# Altium schematic symbol library SparkFun-Connectors.SCHLIB: 348 symbols (part 9 of 9)
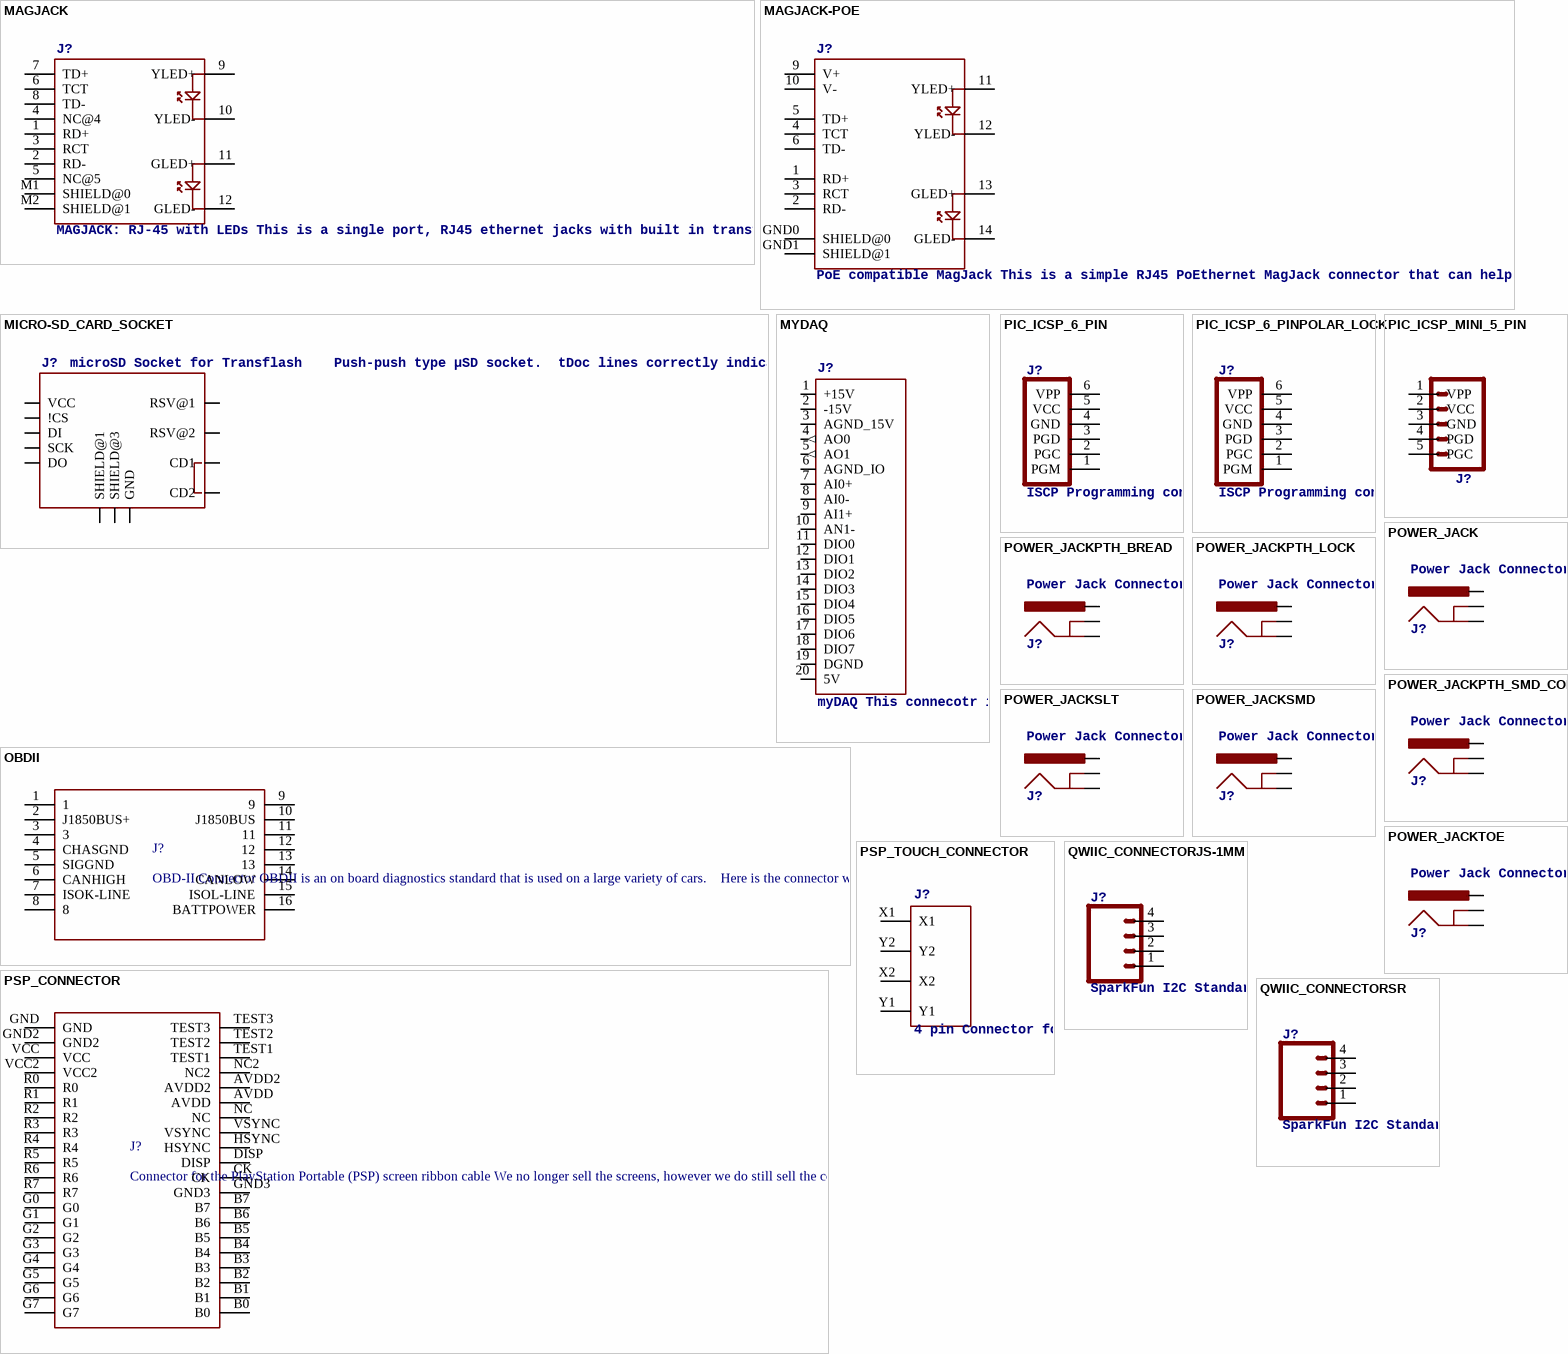
[diagram p19: symbols MAGJACK to QWIIC_CONNECTORSR]

## POWER_JACK
designator J?, comment Power Jack Connector This is the standard 5.5mm barrel jack for power. The PTH is the most common, proven, reliable, footprint. The Slot footprint only works if the mill layer is transmitted to the PCB fab house so be warned.    Here are the connectors we sell at SparkFun: DC Barrel Power Jack/Connector (PRT-00119)  DC Barrel Power Jack/Connector (SMD) (PRT-12748)  DC Barrel Jack Adapter - Breadboard Compatible (PRT-10811)       It is used on this SparkFun product (and many, many others): SparkFun RedBoard - Programmed with Arduino (DEV-12757)       Also, if you need a mating power supply or connector, please check these out: Wall Adapter Power Supply - 9VDC 650mA (TOL-00298)  DC Barrel Jack Adapter - Male (PRT-10287)
PROD_ID: CONN-08197
footprint POWER_JACK_PTH
pins: GND, GNDBREAK, PWR

## POWER_JACKPTH_BREAD
designator J?, comment Power Jack Connector This is the standard 5.5mm barrel jack for power. The PTH is the most common, proven, reliable, footprint. The Slot footprint only works if the mill layer is transmitted to the PCB fab house so be warned.    Here are the connectors we sell at SparkFun: DC Barrel Power Jack/Connector (PRT-00119)  DC Barrel Power Jack/Connector (SMD) (PRT-12748)  DC Barrel Jack Adapter - Breadboard Compatible (PRT-10811)       It is used on this SparkFun product (and many, many others): SparkFun RedBoard - Programmed with Arduino (DEV-12757)       Also, if you need a mating power supply or connector, please check these out: Wall Adapter Power Supply - 9VDC 650mA (TOL-00298)  DC Barrel Jack Adapter - Male (PRT-10287)
PROD_ID: PRT-10811
footprint POWER_JACK_PTH_BREAD
pins: GND, GNDBREAK, PWR

## POWER_JACKPTH_LOCK
designator J?, comment Power Jack Connector This is the standard 5.5mm barrel jack for power. The PTH is the most common, proven, reliable, footprint. The Slot footprint only works if the mill layer is transmitted to the PCB fab house so be warned.    Here are the connectors we sell at SparkFun: DC Barrel Power Jack/Connector (PRT-00119)  DC Barrel Power Jack/Connector (SMD) (PRT-12748)  DC Barrel Jack Adapter - Breadboard Compatible (PRT-10811)       It is used on this SparkFun product (and many, many others): SparkFun RedBoard - Programmed with Arduino (DEV-12757)       Also, if you need a mating power supply or connector, please check these out: Wall Adapter Power Supply - 9VDC 650mA (TOL-00298)  DC Barrel Jack Adapter - Male (PRT-10287)
PROD_ID: CONN-08197; SF_ID: PRT-00119
footprint POWER_JACK_PTH_LOCK
pins: GND, GNDBREAK, PWR

## POWER_JACKPTH_SMD_COMBO
designator J?, comment Power Jack Connector This is the standard 5.5mm barrel jack for power. The PTH is the most common, proven, reliable, footprint. The Slot footprint only works if the mill layer is transmitted to the PCB fab house so be warned.    Here are the connectors we sell at SparkFun: DC Barrel Power Jack/Connector (PRT-00119)  DC Barrel Power Jack/Connector (SMD) (PRT-12748)  DC Barrel Jack Adapter - Breadboard Compatible (PRT-10811)       It is used on this SparkFun product (and many, many others): SparkFun RedBoard - Programmed with Arduino (DEV-12757)       Also, if you need a mating power supply or connector, please check these out: Wall Adapter Power Supply - 9VDC 650mA (TOL-00298)  DC Barrel Jack Adapter - Male (PRT-10287)
footprint POWER_JACK_COMBO
pins: GND GNDBREAK, GND@1 GND, POWER PWR

## POWER_JACKSLT
designator J?, comment Power Jack Connector This is the standard 5.5mm barrel jack for power. The PTH is the most common, proven, reliable, footprint. The Slot footprint only works if the mill layer is transmitted to the PCB fab house so be warned.    Here are the connectors we sell at SparkFun: DC Barrel Power Jack/Connector (PRT-00119)  DC Barrel Power Jack/Connector (SMD) (PRT-12748)  DC Barrel Jack Adapter - Breadboard Compatible (PRT-10811)       It is used on this SparkFun product (and many, many others): SparkFun RedBoard - Programmed with Arduino (DEV-12757)       Also, if you need a mating power supply or connector, please check these out: Wall Adapter Power Supply - 9VDC 650mA (TOL-00298)  DC Barrel Jack Adapter - Male (PRT-10287)
PROD_ID: PRT-00119
footprint POWER_JACK_SLOT
pins: GND@1 GNDBREAK, GND@2 GND, PWR

## POWER_JACKSMD
designator J?, comment Power Jack Connector This is the standard 5.5mm barrel jack for power. The PTH is the most common, proven, reliable, footprint. The Slot footprint only works if the mill layer is transmitted to the PCB fab house so be warned.    Here are the connectors we sell at SparkFun: DC Barrel Power Jack/Connector (PRT-00119)  DC Barrel Power Jack/Connector (SMD) (PRT-12748)  DC Barrel Jack Adapter - Breadboard Compatible (PRT-10811)       It is used on this SparkFun product (and many, many others): SparkFun RedBoard - Programmed with Arduino (DEV-12757)       Also, if you need a mating power supply or connector, please check these out: Wall Adapter Power Supply - 9VDC 650mA (TOL-00298)  DC Barrel Jack Adapter - Male (PRT-10287)
PROD_ID: CONN-08106; SF_ID: PRT-12748
footprint POWER_JACK_SMD
pins: GND GNDBREAK, P$4 GND, VIN0 PWR

## POWER_JACKTOE
designator J?, comment Power Jack Connector This is the standard 5.5mm barrel jack for power. The PTH is the most common, proven, reliable, footprint. The Slot footprint only works if the mill layer is transmitted to the PCB fab house so be warned.    Here are the connectors we sell at SparkFun: DC Barrel Power Jack/Connector (PRT-00119)  DC Barrel Power Jack/Connector (SMD) (PRT-12748)  DC Barrel Jack Adapter - Breadboard Compatible (PRT-10811)       It is used on this SparkFun product (and many, many others): SparkFun RedBoard - Programmed with Arduino (DEV-12757)       Also, if you need a mating power supply or connector, please check these out: Wall Adapter Power Supply - 9VDC 650mA (TOL-00298)  DC Barrel Jack Adapter - Male (PRT-10287)
PROD_ID: CONN-08106; SF_ID: PRT-12748
footprint POWER_JACK_SMD_OVERPASTE_TOE
pins: GND GNDBREAK, P$4 GND, VIN0 PWR

## PSP_CONNECTOR
designator J?, comment Connector for the PlayStation Portable (PSP) screen ribbon cable We no longer sell the screens, however we do still sell the connector.    Here is the connector we sell at SparkFun: Color 24-Bit LCD 4.3" PSP Connector (LCD-08355)  Datasheet
SF_ID: LCD-08355
footprint PSP_CONNECTOR
pins: AVDD, AVDD2, B0, B1, B2, B3, B4, B5, B6, B7, CK, DISP, G0, G1, G2, G3, G4, G5, G6, G7, GND, GND2, GND3, HSYNC, NC, NC2, R0, R1, R2, R3, R4, R5, R6, R7, TEST1, TEST2, TEST3, VCC, VCC2, VSYNC

## PSP_TOUCH_CONNECTOR
designator J?, comment 4 pin Connector for the Color 24-Bit LCD 4.3" Play Station Portable (PSP) Touch Screen We no longer sell the screens, however we do still sell the connector.    Here is the connector we sell at SparkFun: Color 24-Bit LCD 4.3" PSP Touch Screen Connector (LCD-09104)  Datasheet
PROD_ID: CONN-09139; SF_ID: LCD-09104
footprint PSP_TOUCH_CONNECTOR
pins: X1, X2, Y1, Y2

## QWIIC_CONNECTORJS-1MM
designator J?, comment SparkFun I2C Standard Qwiic Connector An SMD 1mm pitch JST connector makes it easy and quick (get it? Qwiic?) to connect I2C devices to each other. The Qwiic system enables fast and solderless connection between popular platforms and various sensors and actuators.   We carry 200mm, 100mm, 50mm, and breadboard friendly Qwiic cables. We also offer 10 pcs strips the SMD connectors.
PROD_ID: CONN-13694
footprint 1X04_1MM_RA
pins: 1 (power), 2 (power), 3, 4

## QWIIC_CONNECTORSR
designator J?, comment SparkFun I2C Standard Qwiic Connector An SMD 1mm pitch JST connector makes it easy and quick (get it? Qwiic?) to connect I2C devices to each other. The Qwiic system enables fast and solderless connection between popular platforms and various sensors and actuators.   We carry 200mm, 100mm, 50mm, and breadboard friendly Qwiic cables. We also offer 10 pcs strips the SMD connectors.
footprint 1X04_1MM_RA_STRESSRELIEF
pins: 1 (power), 2 (power), 3, 4

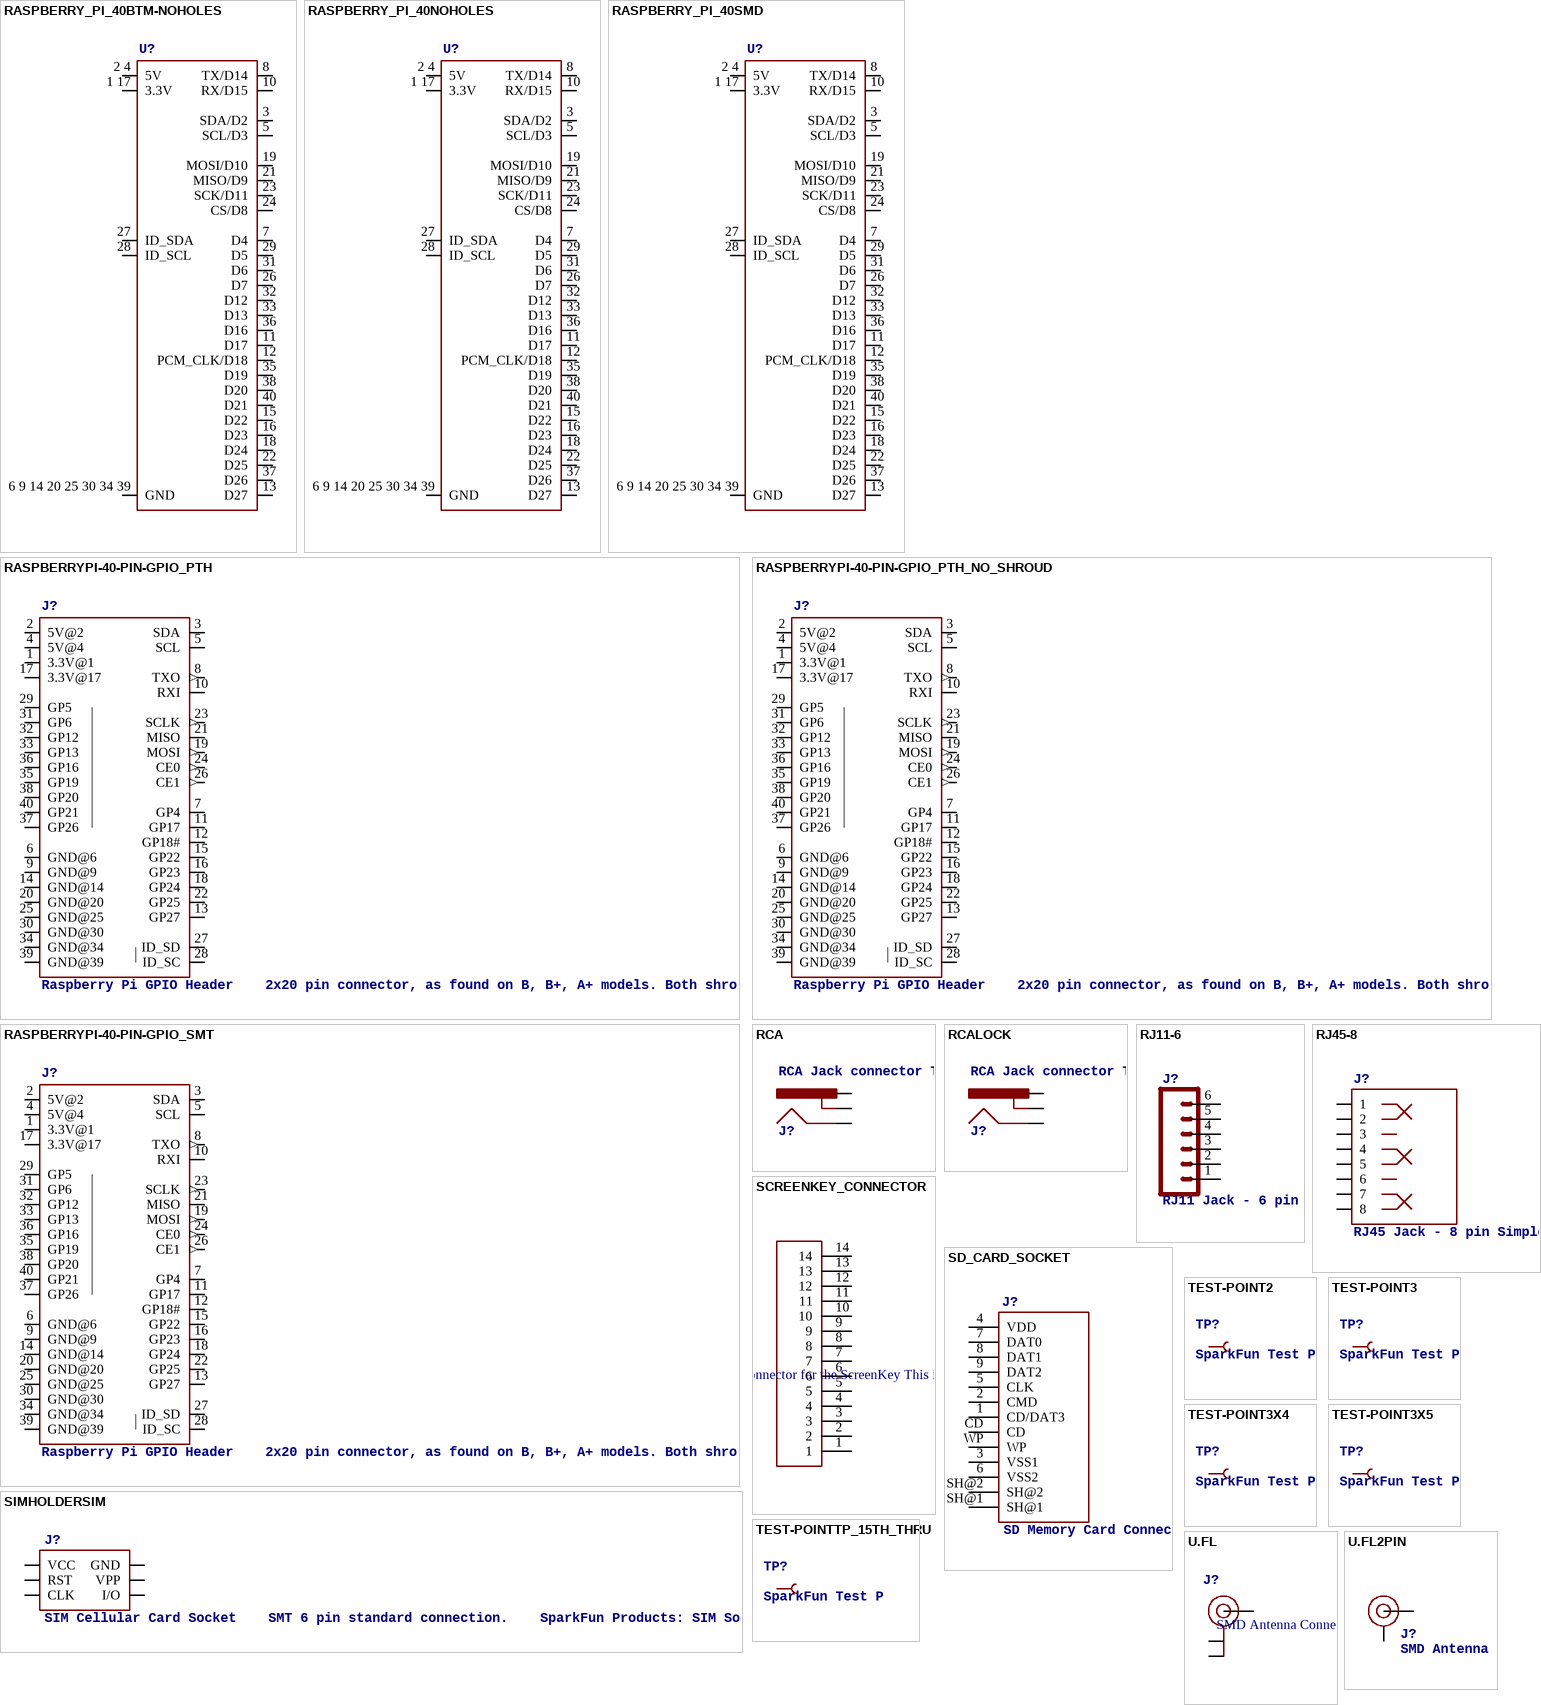
[diagram p10: symbols RASPBERRY_PI_40BTM-NOHOLES to U.FL2PIN]

## RASPBERRY_PI_40BTM-NOHOLES
designator U?
PROD_ID: CONN-13790
footprint RASPBERRY_PI_SHIELD_BOTTOM_ENTRY_NOHOLES
pins: 1 17 3.3V, 2 4 5V, 3 SDA/D2, 5 SCL/D3, 6 9 14 20 25 30 34 39 GND, 7 D4, 8 TX/D14, 10 RX/D15, 11 D17, 12 PCM_CLK/D18, 13 D27, 15 D22, 16 D23, 18 D24, 19 MOSI/D10, 21 MISO/D9, 22 D25, 23 SCK/D11, 24 CS/D8, 26 D7, 27 ID_SDA, 28 ID_SCL, 29 D5, 31 D6, 32 D12, 33 D13, 35 D19, 36 D16, 37 D26, 38 D20, 40 D21

## RASPBERRY_PI_40NOHOLES
designator U?
footprint RASPBERRY_PI_SHIELD_NOHOLES
pins: 1 17 3.3V, 2 4 5V, 3 SDA/D2, 5 SCL/D3, 6 9 14 20 25 30 34 39 GND, 7 D4, 8 TX/D14, 10 RX/D15, 11 D17, 12 PCM_CLK/D18, 13 D27, 15 D22, 16 D23, 18 D24, 19 MOSI/D10, 21 MISO/D9, 22 D25, 23 SCK/D11, 24 CS/D8, 26 D7, 27 ID_SDA, 28 ID_SCL, 29 D5, 31 D6, 32 D12, 33 D13, 35 D19, 36 D16, 37 D26, 38 D20, 40 D21

## RASPBERRY_PI_40SMD
designator U?
footprint RASPBERRY_PI_SHIELD_HOLES
pins: 1 17 3.3V, 2 4 5V, 3 SDA/D2, 5 SCL/D3, 6 9 14 20 25 30 34 39 GND, 7 D4, 8 TX/D14, 10 RX/D15, 11 D17, 12 PCM_CLK/D18, 13 D27, 15 D22, 16 D23, 18 D24, 19 MOSI/D10, 21 MISO/D9, 22 D25, 23 SCK/D11, 24 CS/D8, 26 D7, 27 ID_SDA, 28 ID_SCL, 29 D5, 31 D6, 32 D12, 33 D13, 35 D19, 36 D16, 37 D26, 38 D20, 40 D21

## RASPBERRYPI-40-PIN-GPIO_PTH
designator J?, comment Raspberry Pi GPIO Header    2x20 pin connector, as found on B, B+, A+ models. Both shrouded PTH and SMT versions available.   SparkFun Products: GPIO Shrouded Header- PTH  SparkFun Pi Wedge (Preassembled)
PROD_ID: CONN-12263; SF_ID: PRT-13054
footprint 2X20_SHROUDED
pins: 1 3.3V@1 (power), 2 5V@2 (power), 3 SDA, 4 5V@4 (power), 5 SCL, 6 GND@6 (power), 7 GP4, 8 TXO (out), 9 GND@9 (power), 10 RXI, 11 GP17, 12 GP18#, 13 GP27, 14 GND@14 (power), 15 GP22, 16 GP23, 17 3.3V@17 (power), 18 GP24, 19 MOSI (out), 20 GND@20 (power), 21 MISO, 22 GP25, 23 SCLK (out), 24 CE0 (out), 25 GND@25 (power), 26 CE1 (out), 27 ID_SD, 28 ID_SC, 29 GP5, 30 GND@30 (power), 31 GP6, 32 GP12, 33 GP13, 34 GND@34 (power), 35 GP19, 36 GP16, 37 GP26, 38 GP20, 39 GND@39 (power), 40 GP21

## RASPBERRYPI-40-PIN-GPIO_PTH_NO_SHROUD
designator J?, comment Raspberry Pi GPIO Header    2x20 pin connector, as found on B, B+, A+ models. Both shrouded PTH and SMT versions available.   SparkFun Products: GPIO Shrouded Header- PTH  SparkFun Pi Wedge (Preassembled)
footprint 2X20
pins: 1 3.3V@1 (power), 2 5V@2 (power), 3 SDA, 4 5V@4 (power), 5 SCL, 6 GND@6 (power), 7 GP4, 8 TXO (out), 9 GND@9 (power), 10 RXI, 11 GP17, 12 GP18#, 13 GP27, 14 GND@14 (power), 15 GP22, 16 GP23, 17 3.3V@17 (power), 18 GP24, 19 MOSI (out), 20 GND@20 (power), 21 MISO, 22 GP25, 23 SCLK (out), 24 CE0 (out), 25 GND@25 (power), 26 CE1 (out), 27 ID_SD, 28 ID_SC, 29 GP5, 30 GND@30 (power), 31 GP6, 32 GP12, 33 GP13, 34 GND@34 (power), 35 GP19, 36 GP16, 37 GP26, 38 GP20, 39 GND@39 (power), 40 GP21

## RASPBERRYPI-40-PIN-GPIO_SMT
designator J?, comment Raspberry Pi GPIO Header    2x20 pin connector, as found on B, B+, A+ models. Both shrouded PTH and SMT versions available.   SparkFun Products: GPIO Shrouded Header- PTH  SparkFun Pi Wedge (Preassembled)
PROD_ID: CONN-13143
footprint 2X20_SHROUDED_SMT
pins: 1 3.3V@1 (power), 2 5V@2 (power), 3 SDA, 4 5V@4 (power), 5 SCL, 6 GND@6 (power), 7 GP4, 8 TXO (out), 9 GND@9 (power), 10 RXI, 11 GP17, 12 GP18#, 13 GP27, 14 GND@14 (power), 15 GP22, 16 GP23, 17 3.3V@17 (power), 18 GP24, 19 MOSI (out), 20 GND@20 (power), 21 MISO, 22 GP25, 23 SCLK (out), 24 CE0 (out), 25 GND@25 (power), 26 CE1 (out), 27 ID_SD, 28 ID_SC, 29 GP5, 30 GND@30 (power), 31 GP6, 32 GP12, 33 GP13, 34 GND@34 (power), 35 GP19, 36 GP16, 37 GP26, 38 GP20, 39 GND@39 (power), 40 GP21

## RCA
designator J?, comment RCA Jack connector This is a right angle RCA jack connecotr. Commonly used for video or audio.    Here is the connector we sell at SparkFun: RCA Jack (PRT-08631)  Datasheet      It is not used on any active designs, however it was used on a couple retired products: RCA Jack Breakout [RETIRED] (PRT-08826)  SparkFun On Screen Display Breakout - MAX7456 [RETIRED] (BOB-09168)       You may also be interested in a cable: RCA Video Cable - 6' (CAB-11573)
PROD_ID: CONN-09081; SF_ID: PRT-08631
footprint RCA
pins: PIN, SHELL, SWITCH

## RCALOCK
designator J?, comment RCA Jack connector This is a right angle RCA jack connecotr. Commonly used for video or audio.    Here is the connector we sell at SparkFun: RCA Jack (PRT-08631)  Datasheet      It is not used on any active designs, however it was used on a couple retired products: RCA Jack Breakout [RETIRED] (PRT-08826)  SparkFun On Screen Display Breakout - MAX7456 [RETIRED] (BOB-09168)       You may also be interested in a cable: RCA Video Cable - 6' (CAB-11573)
footprint RCA_LOCK
pins: PIN, SHELL, SWITCH

## RJ11-6
designator J?, comment RJ11 Jack - 6 pin Commonly found on CAT3 devices and some Microchip programmers.    Here is the connector we sell at SparkFun: RJ11 6-Pin Connector (PRT-00132)  Datasheet      It is used on this SparkFun product: SparkFun Weather Shield (DEV-12081)  Weather Meters (SEN-08942)
PROD_ID: CONN-08590; SF_ID: PRT-00132
footprint RJ11-6
pins: 1, 2, 3, 4, 5, 6

## RJ45-8
designator J?, comment RJ45 Jack - 8 pin Simple RJ45, 8-pin connection. Commonly used for Cat5, Cat5e, and Cat6 Ethernet cables.    Here is the connector we sell at SparkFun: RJ45 8-Pin Connector (PRT-00643)  Datasheet      It is used on this SparkFun product: SparkFun RJ45 Breakout (BOB-00716)        Note, you may also be interested in the "MAGJACK" version of this. It is basically a RJ45 connector, but also has some status LEDs built into the connector housing. You can check that out in this library at the device named "MAGJACK.dev" and see these products online: RJ45 Ethernet MagJack-Compatible (PRT-08534)  SparkFun RJ45 MagJack Breakout (BOB-13021)
PROD_ID: CONN-08506; SF_ID: PRT-00643
footprint RJ45-8
pins: 1, 2, 3, 4, 5, 6, 7, 8

## SCREENKEY_CONNECTOR
designator J?, comment Connector for the ScreenKey This is a tiny, locking 14-pin FPC/FFC connector that mates with the TFT ScreenKeys and their displays. These connectors require a really minimal amount of force to close, which is great for the delicate wires they’re designed for.   Unfortunately, we no longer sell the ScreenKey TFT128 or the  TFT128 Display, however we do still sell the connector.    Here is the connector we sell at SparkFun: ScreenKey Mating Connector (PRT-09586)  Datasheet (FH12-14S-0.5SH)
PROD_ID: CONN-09581; SF_ID: PRT-09586
footprint SCREENKEY_MATING_CONNECTOR
pins: 1, 2, 3, 4, 5, 6, 7, 8, 9, 10, 11, 12, 13, 14

## SD_CARD_SOCKET
designator J?, comment SD Memory Card Connector (standard "large" size) Push-push normal type, CD enable, WP enable.    Here is the connector we sell at SparkFun: SD/MMC Socket (PRT-12769)  Datasheet      It is used on these SparkFun products: SparkFun SD/MMC Card Breakout (BOB-12941)  SD Sniffer (TOL-11468)
PROD_ID: CONN-11976; SF_ID: PRT-12769
footprint SD
pins: 1 CD/DAT3, 2 CMD, 3 VSS1 (power), 4 VDD (power), 5 CLK, 6 VSS2 (power), 7 DAT0, 8 DAT1, 9 DAT2, CD, SH@1, SH@2, WP

## SIMHOLDERSIM
designator J?, comment SIM Cellular Card Socket    SMT 6 pin standard connection.    SparkFun Products: SIM Socket  SparkFun Cellular Shield - MG2639  SparkFun SIM Card Socket Breakout
PROD_ID: CONN-08536; SF_ID: PRT-00548
footprint SIMHOLDER
pins: C1 VCC (power), C2 RST, C3 CLK, C5 GND (power), C6 VPP, C7 I/O

## TEST-POINT2
designator TP?, comment SparkFun Test Points    Bare copper test points for troubleshooting or In-Circuit-Testing. These are used by our Production team for verifying production board runs using pogo-pins on test beds.   SparkFun Products: SparkFun LSM9DS1 Breakout  SparkFun PSOC  SparkFun Load Cell Amplifier
footprint PAD.02X.02
pins: P$1 1

## TEST-POINT3
designator TP?, comment SparkFun Test Points    Bare copper test points for troubleshooting or In-Circuit-Testing. These are used by our Production team for verifying production board runs using pogo-pins on test beds.   SparkFun Products: SparkFun LSM9DS1 Breakout  SparkFun PSOC  SparkFun Load Cell Amplifier
footprint PAD.03X.03
pins: P$1 1

## TEST-POINT3X4
designator TP?, comment SparkFun Test Points    Bare copper test points for troubleshooting or In-Circuit-Testing. These are used by our Production team for verifying production board runs using pogo-pins on test beds.   SparkFun Products: SparkFun LSM9DS1 Breakout  SparkFun PSOC  SparkFun Load Cell Amplifier
footprint PAD.03X.04
pins: P$1 1

## TEST-POINT3X5
designator TP?, comment SparkFun Test Points    Bare copper test points for troubleshooting or In-Circuit-Testing. These are used by our Production team for verifying production board runs using pogo-pins on test beds.   SparkFun Products: SparkFun LSM9DS1 Breakout  SparkFun PSOC  SparkFun Load Cell Amplifier
footprint PAD.03X.05
pins: P$1 1

## TEST-POINTTP_15TH_THRU
designator TP?, comment SparkFun Test Points    Bare copper test points for troubleshooting or In-Circuit-Testing. These are used by our Production team for verifying production board runs using pogo-pins on test beds.   SparkFun Products: SparkFun LSM9DS1 Breakout  SparkFun PSOC  SparkFun Load Cell Amplifier
footprint TP_15TH
pins: P$1 1

## U.FL
designator J?, comment SMD Antenna Connector - U.FL    2mm height, 3.0mm x 3.0mm receptacle size.    SparkFun Products: SparkFun WiFi Shield - ESP8266  SparkFun ESP8266 Thing  SparkFun MiniGen - Pro Mini Signal Generator Shield
PROD_ID: CONN-09193; SF_ID: WRL-09144
footprint U.FL
pins: 1 GND@0, 2 GND@1, FEED SIGNAL

## U.FL2PIN
designator J?, comment SMD Antenna Connector - U.FL    2mm height, 3.0mm x 3.0mm receptacle size.    SparkFun Products: SparkFun WiFi Shield - ESP8266  SparkFun ESP8266 Thing  SparkFun MiniGen - Pro Mini Signal Generator Shield
PROD_ID: CONN-09193; SF_ID: WRL-09144
footprint U.FL
pins: 1 2 GND, FEED SIGNAL

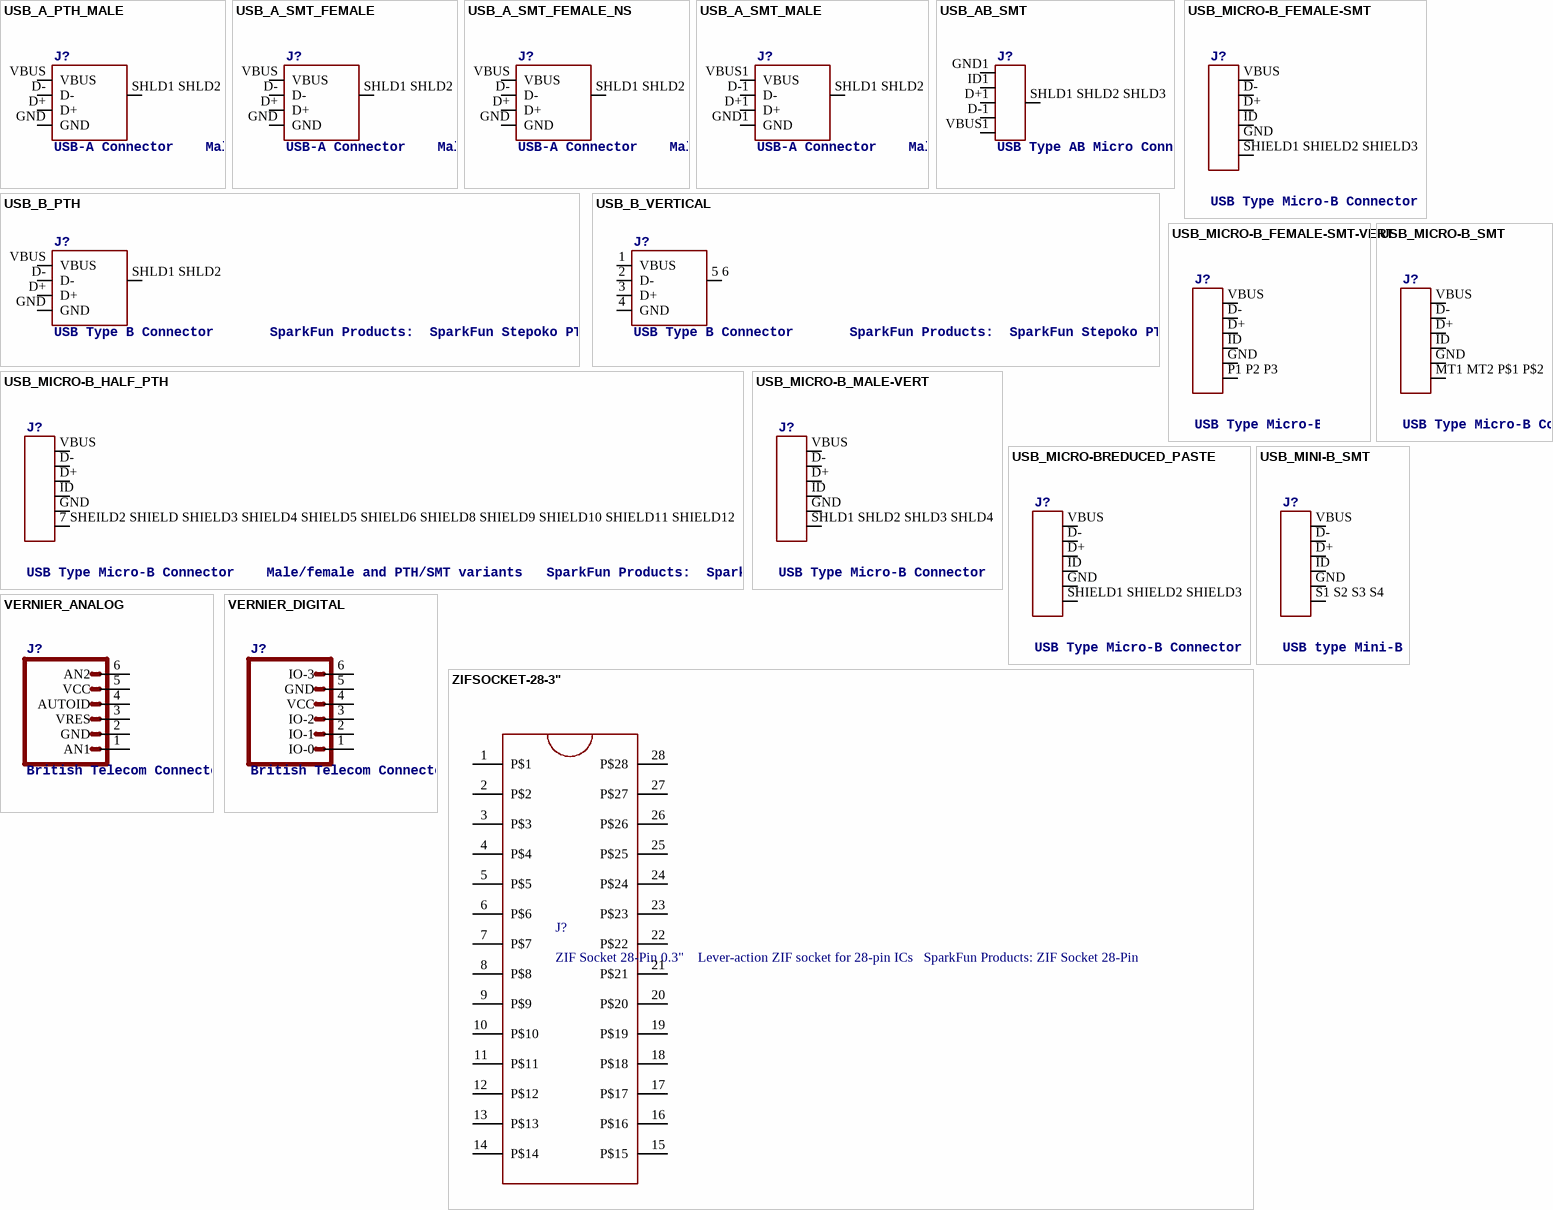
[diagram p11: symbols USB_A_PTH_MALE to ZIFSOCKET-28-3"]

## USB_A_PTH_MALE
designator J?, comment USB-A Connector    Male and female variants, as well as PTH and SMT variants   SparkFun Products:  SparkFun XBee Explorer Dongle PTH Male  SparkFun MicroView-USB Programmer SMT Male  SparkFun USB Type A Female Breakout SMT Female
PROD_ID: CONN-08367; SF_ID: PRT-00437
footprint USB-A-H
pins: D+, D-, GND (power), SHLD1 SHLD2 SHIELD, VBUS (power)

## USB_A_SMT_FEMALE
designator J?, comment USB-A Connector    Male and female variants, as well as PTH and SMT variants   SparkFun Products:  SparkFun XBee Explorer Dongle PTH Male  SparkFun MicroView-USB Programmer SMT Male  SparkFun USB Type A Female Breakout SMT Female
PROD_ID: CONN-09520; SF_ID: PRT-09011
footprint USB-A-S-SILK-FEMALE
pins: D+, D-, GND (power), SHLD1 SHLD2 SHIELD, VBUS (power)

## USB_A_SMT_FEMALE_NS
designator J?, comment USB-A Connector    Male and female variants, as well as PTH and SMT variants   SparkFun Products:  SparkFun XBee Explorer Dongle PTH Male  SparkFun MicroView-USB Programmer SMT Male  SparkFun USB Type A Female Breakout SMT Female
PROD_ID: CONN-09520; SF_ID: PRT-09011
footprint USB-A-S-NOSILK-FEMALE
pins: D+, D-, GND (power), SHLD1 SHLD2 SHIELD, VBUS (power)

## USB_A_SMT_MALE
designator J?, comment USB-A Connector    Male and female variants, as well as PTH and SMT variants   SparkFun Products:  SparkFun XBee Explorer Dongle PTH Male  SparkFun MicroView-USB Programmer SMT Male  SparkFun USB Type A Female Breakout SMT Female
PROD_ID: CONN-11499
footprint USB-A-SMT-MALE
pins: D+1 D+, D-1 D-, GND1 GND (power), SHLD1 SHLD2 SHIELD, VBUS1 VBUS (power)

## USB_AB_SMT
designator J?, comment USB Type AB Micro Connector    OTG-compatible. 5 pins, 3 shield pins   SparkFun Products:  IOIO-OTG  SparkFun SAMD21 Mini Breakout
PROD_ID: CONN-11794
footprint USB-AB-MICRO-SMD
pins: D+1 D+, D-1 D-, GND1 GND (power), ID1 USBID, SHLD1 SHLD2 SHLD3 SHIELD, VBUS1 VBUS (power)

## USB_B_PTH
designator J?, comment USB Type B Connector       SparkFun Products:  SparkFun Stepoko PTH
PROD_ID: CONN-08278; SF_ID: PRT-00139
footprint USB-B-PTH
pins: D+, D-, GND (power), SHLD1 SHLD2 SHIELD, VBUS (power)

## USB_B_VERTICAL
designator J?, comment USB Type B Connector       SparkFun Products:  SparkFun Stepoko PTH
footprint USB_B_VERTICAL_PTH
pins: 1 VBUS (power), 2 D-, 3 D+, 4 GND (power), 5 6 SHIELD

## USB_MICRO-B_FEMALE-SMT
designator J?, comment USB Type Micro-B Connector    Male/female and PTH/SMT variants   SparkFun Products:  SparkFun microB USB Breakout  SparkFun USB microB Plug Breakout  SparkFun ESP8266 Thing
PROD_ID: CONN-11752
footprint USB-B-MICRO-SMD
pins: D+, D-, GND (power), ID, SHIELD1 SHIELD2 SHIELD3 SHIELD, VBUS (power)

## USB_MICRO-B_FEMALE-SMT-VERT
designator J?, comment USB Type Micro-B Connector    Male/female and PTH/SMT variants   SparkFun Products:  SparkFun microB USB Breakout  SparkFun USB microB Plug Breakout  SparkFun ESP8266 Thing
PROD_ID: CONN-13534
footprint USB-B-MICRO-SMD_VERT
pins: D+, D-, GND (power), ID, P1 P2 P3 SHIELD, VBUS (power)

## USB_MICRO-B_HALF_PTH
designator J?, comment USB Type Micro-B Connector    Male/female and PTH/SMT variants   SparkFun Products:  SparkFun microB USB Breakout  SparkFun USB microB Plug Breakout  SparkFun ESP8266 Thing
PROD_ID: CONN-13711
footprint USB-MICROB-PTH
pins: 7 SHEILD2 SHIELD SHIELD3 SHIELD4 SHIELD5 SHIELD6 SHIELD8 SHIELD9 SHIELD10 SHIELD11 SHIELD12 SHIELD, D+, D-, GND (power), ID, VBUS (power)

## USB_MICRO-B_MALE-VERT
designator J?, comment USB Type Micro-B Connector    Male/female and PTH/SMT variants   SparkFun Products:  SparkFun microB USB Breakout  SparkFun USB microB Plug Breakout  SparkFun ESP8266 Thing
PROD_ID: CONN-09900
footprint USB_MICROB_VERTICAL
pins: D+, D-, GND (power), ID, SHLD1 SHLD2 SHLD3 SHLD4 SHIELD, VBUS (power)

## USB_MICRO-B_SMT
designator J?, comment USB Type Micro-B Connector    Male/female and PTH/SMT variants   SparkFun Products:  SparkFun microB USB Breakout  SparkFun USB microB Plug Breakout  SparkFun ESP8266 Thing
PROD_ID: CONN-09505; SF_ID: PRT-08533
footprint USB-MICROB
pins: D+, D-, GND (power), ID, MT1 MT2 P$1 P$2 SHIELD, VBUS (power)

## USB_MICRO-BREDUCED_PASTE
designator J?, comment USB Type Micro-B Connector    Male/female and PTH/SMT variants   SparkFun Products:  SparkFun microB USB Breakout  SparkFun USB microB Plug Breakout  SparkFun ESP8266 Thing
PROD_ID: CONN-11752
footprint USB-B-MICRO-SMD_RED_PASTE
pins: D+, D-, GND (power), ID, SHIELD1 SHIELD2 SHIELD3 SHIELD, VBUS (power)

## USB_MINI-B_SMT
designator J?, comment USB type Mini-B Connector    Breaks out 5th pin, and includes shield pins if needed.   SparkFun Products:    SparkFun Redboard
PROD_ID: CONN-08193; SF_ID: PRT-00587
footprint USB-MINIB
pins: D+, D-, GND (power), ID, S1 S2 S3 S4 SHIELD, VBUS (power)

## VERNIER_ANALOG
designator J?, comment British Telecom Connector - BTA (female)    This device is useful when designing a project that uses any of the analog sensors in the Vernier ecosystem (sensors and/or controllers)   SparkFun Products:  SparkFun Vernier Interface Shield (DEV-12858)  British Telecom Connector - BTA (female)
PROD_ID: CONN-11653; SF_ID: PRT-12753
footprint BTA
pins: 1 AN1, 2 GND, 3 VRES, 4 AUTOID, 5 VCC, 6 AN2

## VERNIER_DIGITAL
designator J?, comment British Telecom Connector - BTD Digital (female)    This device is useful when designing a project that uses any of the analog sensors in the Vernier ecosystem (sensors and/or controllers)   SparkFun Products:  SparkFun Vernier Interface Shield (DEV-12858)  British Telecom Connector - BTD (female)        More information about the Vernier ecosystem can be found here:  http://www.vernier.com/engineering/arduino/
PROD_ID: CONN-11654; SF_ID: PRT-12754
footprint BTD
pins: 1 IO-0, 2 IO-1, 3 IO-2, 4 VCC, 5 GND, 6 IO-3

## ZIFSOCKET-28-3"
designator J?, comment ZIF Socket 28-Pin 0.3"    Lever-action ZIF socket for 28-pin ICs   SparkFun Products: ZIF Socket 28-Pin
PROD_ID: CONN-10960; SF_ID: PRT-09175
footprint DIL28-3-ZIF_SOCKET
pins: 1 P$1, 2 P$2, 3 P$3, 4 P$4, 5 P$5, 6 P$6, 7 P$7, 8 P$8, 9 P$9, 10 P$10, 11 P$11, 12 P$12, 13 P$13, 14 P$14, 15 P$15, 16 P$16, 17 P$17, 18 P$18, 19 P$19, 20 P$20, 21 P$21, 22 P$22, 23 P$23, 24 P$24, 25 P$25, 26 P$26, 27 P$27, 28 P$28